# Altium schematic symbol library ZXTR2112FQ-7.SchLib: 1 symbol
Pins are listed as number, name and electrical type; pins without a type are passive.

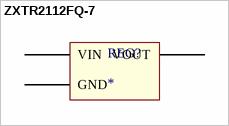
[diagram p0: symbol ZXTR2112FQ-7]

## ZXTR2112FQ-7
designator REG?
pins: 1 GND, 2 VOUT, 3 VIN